# Altium footprint library SAMTEC_LSHM-140-02.5-L-DV-A-N-K-TR.PcbLib: 1 footprints
Each footprint in its own frame and in the unit in brackets; x right, y up, seen from the top. Pads: shape width x height; smd on the part's side, far side on the other; paste and mask are expansions set on the pad; w line width, h text height; cw(c..) or ccw(c..) is an arc to the next point about the centre after c.
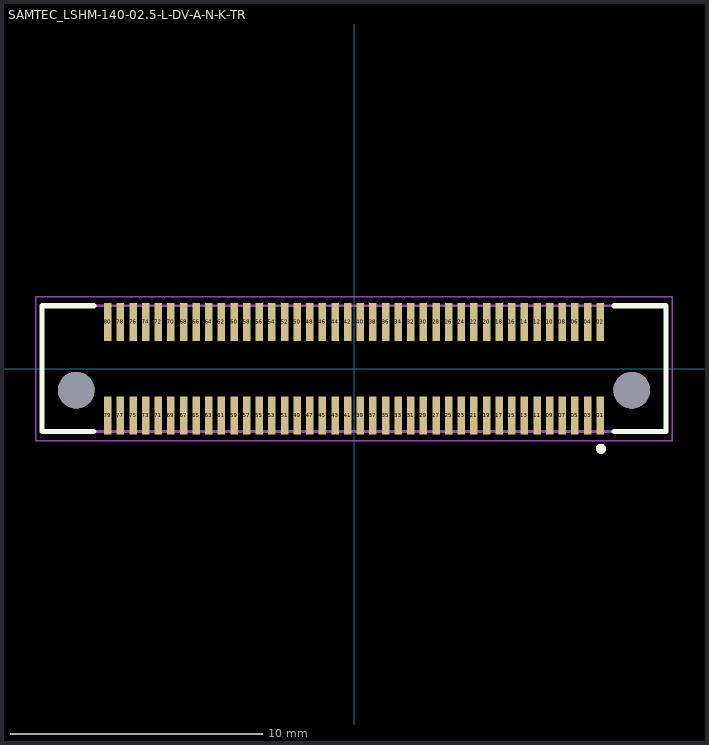
[diagram p0: the footprint, top view; thin cyan lines are the x and y axes]

## SAMTEC_LSHM-140-02.5-L-DV-A-N-K-TR [mm]
pads (82):
  rect 0.3x1.5 smd: 01(9.75,-1.85) 02(9.75,1.85) 03(9.25,-1.85) 04(9.25,1.85) 05(8.75,-1.85) 06(8.75,1.85) 07(8.25,-1.85) 08(8.25,1.85) 09(7.75,-1.85) 10(7.75,1.85) 11(7.25,-1.85) 12(7.25,1.85) 13(6.75,-1.85) 14(6.75,1.85) 15(6.25,-1.85) 16(6.25,1.85) 17(5.75,-1.85) 18(5.75,1.85) 19(5.25,-1.85) 20(5.25,1.85) 21(4.75,-1.85) 22(4.75,1.85) 23(4.25,-1.85) 24(4.25,1.85) 25(3.75,-1.85) 26(3.75,1.85) 27(3.25,-1.85) 28(3.25,1.85) 29(2.75,-1.85) 30(2.75,1.85) 31(2.25,-1.85) 32(2.25,1.85) 33(1.75,-1.85) 34(1.75,1.85) 35(1.25,-1.85) 36(1.25,1.85) 37(0.75,-1.85) 38(0.75,1.85) 39(0.25,-1.85) 40(0.25,1.85) 41(-0.25,-1.85) 42(-0.25,1.85) 43(-0.75,-1.85) 44(-0.75,1.85) 45(-1.25,-1.85) 46(-1.25,1.85) 47(-1.75,-1.85) 48(-1.75,1.85) 49(-2.25,-1.85) 50(-2.25,1.85) 51(-2.75,-1.85) 52(-2.75,1.85) 53(-3.25,-1.85) 54(-3.25,1.85) 55(-3.75,-1.85) 56(-3.75,1.85) 57(-4.25,-1.85) 58(-4.25,1.85) 59(-4.75,-1.85) 60(-4.75,1.85) 61(-5.25,-1.85) 62(-5.25,1.85) 63(-5.75,-1.85) 64(-5.75,1.85) 65(-6.25,-1.85) 66(-6.25,1.85) 67(-6.75,-1.85) 68(-6.75,1.85) 69(-7.25,-1.85) 70(-7.25,1.85) 71(-7.75,-1.85) 72(-7.75,1.85) 73(-8.25,-1.85) 74(-8.25,1.85) 75(-8.75,-1.85) 76(-8.75,1.85) 77(-9.25,-1.85) 78(-9.25,1.85) 79(-9.75,-1.85) 80(-9.75,1.85)
  round 1.45 hole 1.45 unplated: ""(-11,-0.85) ""(11,-0.85)
Top Overlay:
  circle w0.2: c9.779,-3.175 r0.1
  lines w0.2: -10.3,-2.49 -12.35,-2.49 -12.35,2.49 -10.3,2.49 ; 10.3,-2.49 12.35,-2.49 12.35,2.49 10.3,2.49
Mechanical 13:
  circle w0.2: c9.779,-3.175 r0.1
  lines w0.1: -12.35,-2.49 -12.35,2.49 12.35,2.49 12.35,-2.49 -12.35,-2.49
Mechanical 15:
  lines w0.05: -12.6,-2.85 -12.6,2.85 12.6,2.85 12.6,-2.85 -12.6,-2.85